# Altium schematic symbol library SCH - RF - IC - Espressif ESP32-D0WDQ6.SCHLIB: 1 symbol
Pins are listed as number, name and electrical type; pins without a type are passive.

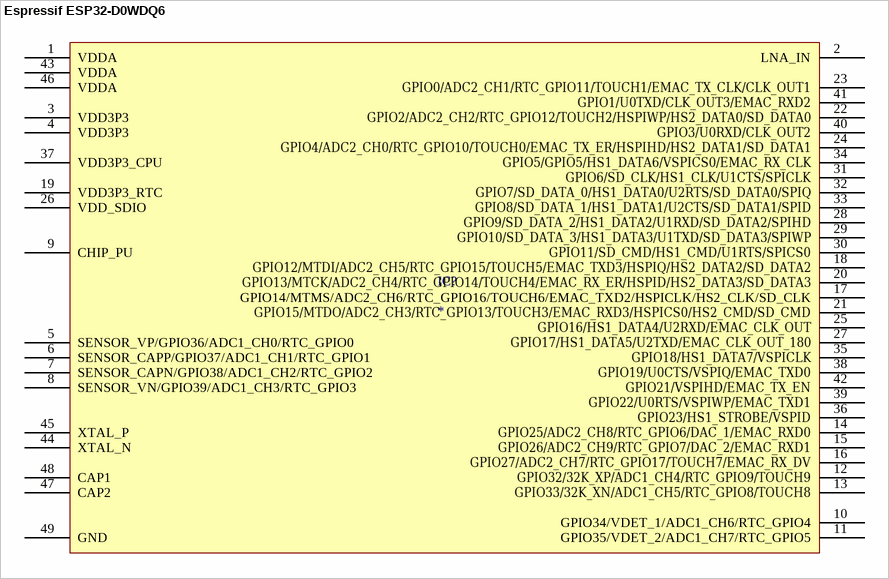
[diagram p0: symbol Espressif ESP32-D0WDQ6]

## Espressif ESP32-D0WDQ6
designator IC?
pins: 1 VDDA, 2 LNA_IN, 3 VDD3P3, 4 VDD3P3, 5 SENSOR_VP/GPIO36/ADC1_CH0/RTC_GPIO0, 6 SENSOR_CAPP/GPIO37/ADC1_CH1/RTC_GPIO1, 7 SENSOR_CAPN/GPIO38/ADC1_CH2/RTC_GPIO2, 8 SENSOR_VN/GPIO39/ADC1_CH3/RTC_GPIO3, 9 CHIP_PU, 10 GPIO34/VDET_1/ADC1_CH6/RTC_GPIO4, 11 GPIO35/VDET_2/ADC1_CH7/RTC_GPIO5, 12 GPIO32/​32K_XP/ADC1_CH4/RTC_GPIO9/TOUCH9, 13 GPIO33/​32K_XN/ADC1_CH5/RTC_GPIO8/TOUCH8, 14 ​GPIO25/ADC2_CH8/RTC_GPIO6/DAC_1/EMAC_RXD0, 15 ​GPIO26/ADC2_CH9/RTC_GPIO7/DAC_2/EMAC_RXD1, 16 ​GPIO27/ADC2_CH7/RTC_GPIO17/TOUCH7/EMAC_RX_DV, 17 GPIO14/MTMS/ADC2_CH6/RTC_GPIO16/TOUCH6/EMAC_TXD2/HSPICLK/HS2_CLK/SD_CLK, 18 GPIO12/​MTDI/ADC2_CH5/RTC_GPIO15/TOUCH5/EMAC_TXD3/HSPIQ/HS2_DATA2/SD_DATA2, 19 VDD3P3_RTC, 20 GPIO13/​MTCK/ADC2_CH4/RTC_GPIO14/TOUCH4/EMAC_RX_ER/HSPID/HS2_DATA3/SD_DATA3, 21 GPIO15/​MTDO/ADC2_CH3/RTC_GPIO13/TOUCH3/EMAC_RXD3/HSPICS0/HS2_CMD/SD_CMD, 22 ​GPIO2/ADC2_CH2/RTC_GPIO12/TOUCH2/HSPIWP/HS2_DATA0/SD_DATA0, 23 ​GPIO0/ADC2_CH1/RTC_GPIO11/TOUCH1/EMAC_TX_CLK/CLK_OUT1, 24 ​GPIO4/ADC2_CH0/RTC_GPIO10/TOUCH0/EMAC_TX_ER/HSPIHD/HS2_DATA1/SD_DATA1, 25 ​GPIO16/HS1_DATA4/U2RXD/EMAC_CLK_OUT, 26 VDD_SDIO, 27 GPIO17/​HS1_DATA5/U2TXD/EMAC_CLK_OUT_180, 28 GPIO9/​SD_DATA_2/HS1_DATA2/U1RXD/SD_DATA2/SPIHD, 29 GPIO10/​SD_DATA_3/HS1_DATA3/U1TXD/SD_DATA3/SPIWP, 30 GPIO11/​SD_CMD/HS1_CMD/U1RTS/SPICS0, 31 GPIO6/​SD_CLK/HS1_CLK/U1CTS/SPICLK, 32 GPIO7/​SD_DATA_0/HS1_DATA0/U2RTS/SD_DATA0/SPIQ, 33 GPIO8/​SD_DATA_1/HS1_DATA1/U2CTS/SD_DATA1/SPID, 34 ​GPIO5/GPIO5/HS1_DATA6/VSPICS0/EMAC_RX_CLK, 35 ​GPIO18/HS1_DATA7/VSPICLK, 36 ​GPIO23/HS1_STROBE/VSPID, 37 VDD3P3_CPU, 38 ​GPIO19/U0CTS/VSPIQ/EMAC_TXD0, 39 ​GPIO22/U0RTS/VSPIWP/EMAC_TXD1, 40 GPIO3/​U0RXD/CLK_OUT2, 41 ​GPIO1/U0TXD/CLK_OUT3/EMAC_RXD2, 42 ​GPIO21/VSPIHD/EMAC_TX_EN, 43 VDDA, 44 XTAL_N, 45 XTAL_P, 46 VDDA, 47 CAP2, 48 CAP1, 49 GND